# Altium footprint library Capacitors.PcbLib: 9 footprints
Each footprint in its own frame and in the unit in brackets; x right, y up, seen from the top. Pads: shape width x height; smd on the part's side, far side on the other; paste and mask are expansions set on the pad; w line width, h text height; cw(c..) or ccw(c..) is an arc to the next point about the centre after c.
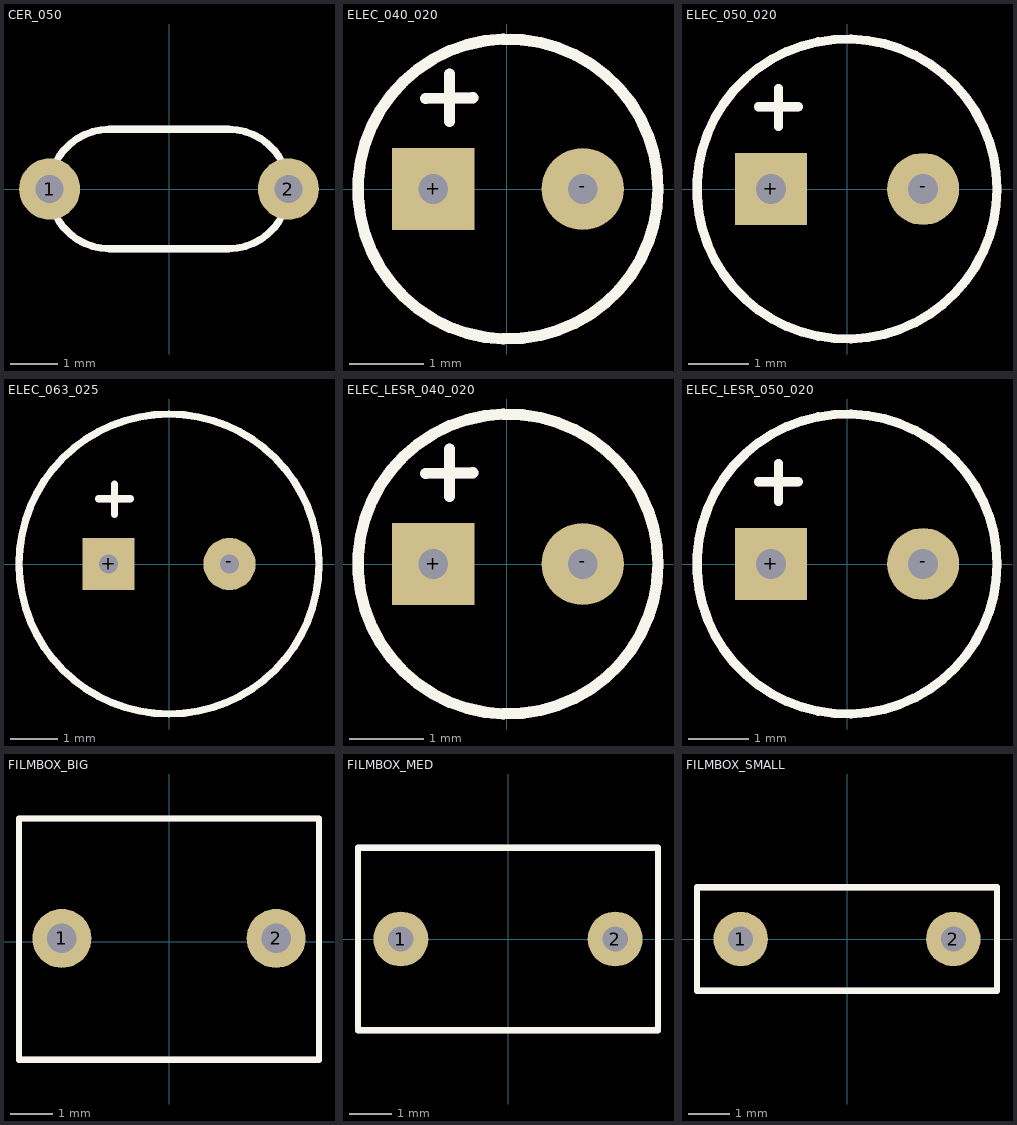
[diagram p0: the footprints below, top view; thin cyan lines are the x and y axes]

## CER_050 [mil]
pads (2):
  round 51.18 hole 23.62: 1(-100,0) 2(100,0)
Top Overlay:
  lines w6: -100,0 ccw(c-50,0) -50,-50 25,-50 50,-50 ccw(c50,0) 100,0 ccw(c50,0) 50,50 -50,50 ccw(c-50,0) -100,0
Mechanical 2:
  lines w6: -100,0 cw(c-50,0) -50,50 50,50 cw(c50,0) 100,0 cw(c50,0) 50,-50 25,-50 -50,-50 cw(c-50,0) -100,0
3D body "CER_050.STEP": height 196.22, standoff -158.11, extent -110.23,-49.21 110.24,49.22
3D body: height 10, standoff 0, extent -102,50 -102,50
3D body: height 10, standoff 0, extent -117,66 -117,66

## ELEC_040_020 [mil]
pads (2):
  rect 43.31x43.31 hole 15.75: +(-38.8,0)
  round 43.31 hole 15.75: -(40,0)
Top Overlay:
  circle w6: c0.6,0 r79.06
  lines w6: -42.73,47.72 -18.08,48 ; -30.25,35.58 -30.25,60.58
Mechanical 2:
  circle w6: c0.6,0 r79.06
  lines w6: -42.73,47.72 -18.08,48 ; -30.25,35.58 -30.25,60.58
3D body: height 10, standoff 0, extent -2.5,50 -2.5,50
3D body: height 10, standoff 0, extent -2.5,50 -2.5,50
3D body "ELEC_040_020.STEP": height 277.09, standoff -57.56, extent -78.71,-78.69 78.71,78.71

## ELEC_050_020 [mil]
pads (2):
  rect 47.24x47.24 hole 19.69: +(-50,0)
  round 47.24 hole 19.69: -(50,0)
Top Overlay:
  circle w6: c0,0 r98.43
  lines w6: -58,54 -32,54 ; -45,41 -45,66
Mechanical 2:
  circle w6: c0,0 r98.43
  lines w6: -58,54 -32,54 ; -45,41 -45,66
3D body "ELEC_050_020.STEP": height 277.09, standoff -57.56, extent -98.38,-98.31 98.4,98.43

## ELEC_063_025 [mil]
pads (2):
  rect 43.31x43.31 hole 15.75: +(-50,0)
  round 43.31 hole 15.75: -(50,0)
Top Overlay:
  circle w6: c0,0 r124.02
  lines w6: -58,54 -32,54 ; -45,41 -45,66
Mechanical 2:
  circle w6: c0,0 r124.02
  lines w6: -58,54 -32,54 ; -45,41 -45,66
3D body "ELEC_063_025.STEP": height 314.46, standoff -59.56, extent -118.06,-118.09 118.07,118.03

## ELEC_LESR_040_020 [mil]
pads (2):
  rect 43.31x43.31 hole 15.75: +(-38.8,0)
  round 43.31 hole 15.75: -(40,0)
Top Overlay:
  circle w6: c0.6,0 r79.06
  lines w6: -42.73,47.72 -18.08,48 ; -30.25,35.58 -30.25,60.58
Mechanical 2:
  circle w6: c0.6,0 r79.06
  lines w6: -42.73,47.72 -18.08,48 ; -30.25,35.58 -30.25,60.58
3D body "ELEC_LESR_040_020.STEP": height 277.09, standoff -57.56, extent -78.71,-78.69 78.71,78.71
3D body: height 10, standoff 0, extent -2.5,50 -2.5,50
3D body: height 10, standoff 0, extent -2.5,50 -2.5,50

## ELEC_LESR_050_020 [mil]
pads (2):
  rect 47.24x47.24 hole 19.69: +(-50,0)
  round 47.24 hole 19.69: -(50,0)
Top Overlay:
  circle w6: c0,0 r98.43
  lines w6: -58,54 -32,54 ; -45,41 -45,66
Mechanical 2:
  circle w6: c0,0 r98.43
  lines w6: -58,54 -32,54 ; -45,41 -45,66
3D body "ELEC_LESR_050_020.STEP": height 433.57, standoff -58.56, extent -98.38,-98.32 98.4,98.43
3D body: height 10, standoff 0, extent -95,100 60,100

## FILMBOX_BIG [mil]
pads (2):
  round 55.12 hole 27.56: 1(-100,3) 2(100,3)
Top Overlay:
  lines w6: -140,-110 -140,115 140,115 140,-110 -140,-110
Mechanical 2:
  lines w6: -140,-110 -140,115 140,115 140,-110 -140,-110
3D body "BOX_BIG.STEP": height 452.76, standoff -98.43, extent -141.68,-105.26 141.79,111.27

## FILMBOX_MED [mil]
pads (2):
  round 51.18 hole 23.62: 1(-100,0) 2(100,0)
Top Overlay:
  lines w6: -140,-85 -140,85 140,85 140,-85 -140,-85
Mechanical 2:
  lines w6: -140,-85 -140,85 140,85 140,-85 -140,-85
3D body "BOX_MED.STEP": height 374.02, standoff -98.43, extent -141.68,-88.58 141.79,88.59

## FILMBOX_SMALL [mil]
pads (2):
  round 51.18 hole 23.62: 1(-100,0) 2(100,0)
Top Overlay:
  lines w6: -141.06,-48.82 -141.06,48.82 141.06,48.82 141.06,-48.82 -141.06,-48.82
Mechanical 2:
  lines w6: -141.06,-48.82 -141.06,48.82 141.06,48.82 141.06,-48.82 -141.06,-48.82
3D body "BOX_SMALL.STEP": height 255.91, standoff -98.43, extent -141.73,-48.43 141.73,50
3D body: height 10, standoff 0, extent -100,0 -100,0